# Altium schematic symbol library KeetV2_2.SCHLIB: 72 symbols (part 2 of 3)
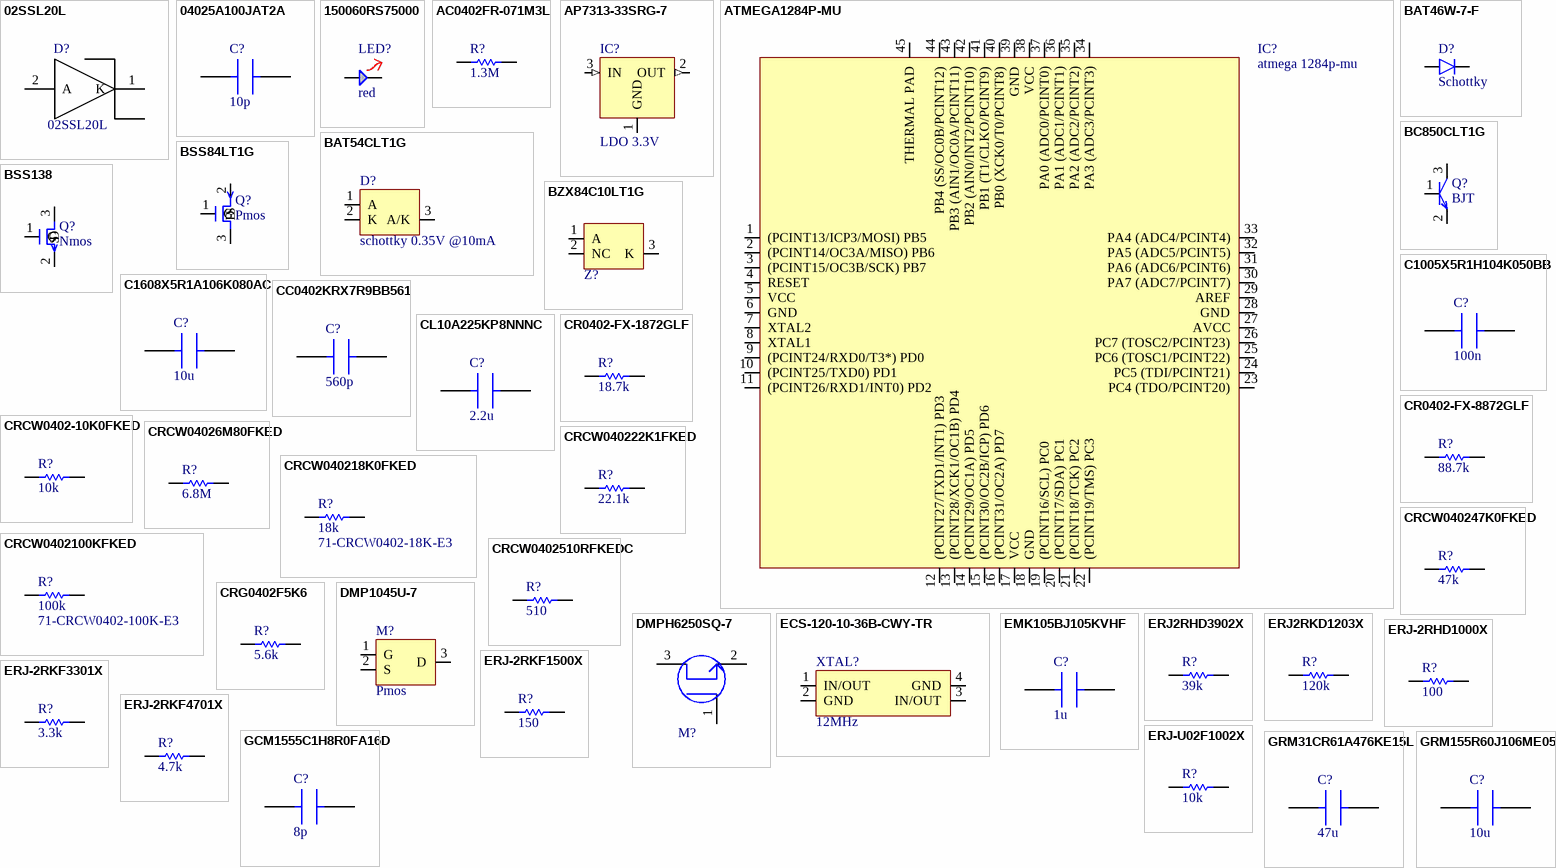
[diagram p2: symbols 02SSL20L to GRM155R60J106ME05J]

## CRCW04026M80FKED
designator R?, comment 6.8M
VISHAY         CRCW04026M80FKED            SMD Chip Resistor, Thick Film, AEC-Q200 CRCW Series, 6.8 Mohm, 50 V, 0402 [1005 Metric], 63 mW; Resistance: 6.8MR; Power Rating: 63mW; Tolerance: 1%; Voltage Rating: 50V; Temperature Coefficient: 100ppm/°C; Supplier 1: Mouser; Manufacturer: Vishay; Manufacturer Part Number: CRCW04026M80FKED; RoHS: Yes; Category: Chip SMD Resistors; Stock 1: 37640; Pricing 1: 1=0,10000, 10=0,03300, 50=0,03300, 100=0,01400, 1000=0,01300, 10000=0,01000 (USD); Case/Package: 0402; Weight: 2.3E-05oz; Case Code (Metric): 1005; Case Code (Imperial): 0402; Min Operating Temperature: -55°C; Max Operating Temperature: 155°C; Package Quantity: 10000; Packaging: Tape and Reel; Resistor Type: Thick Film; Number of Terminations: 2; Termination: SMD/SMT; Max Power Dissipation: 63mW; Voltage Rating (DC): 50V; Features: Automotive AEC-Q200; Series: CRCW; Resistance Tolerance: 1%; Construction: Rectangular; Length: 1mm; Width: 0.02inch; Height: 0.016inch; Depth: 0.5mm; REACH SVHC: Unknown; Military Standard: Not; Lead Free: Lead Free; RoHS Compliant: Yes; ComponentLink1URL: https://datasheet.ciiva.com/2556/dcrcwe3-2556851.pdf?src-supplier=Digi-Key; ComponentLink1Description: https://datasheet.ciiva.com/2556/dcrcwe3-2556851.pdf?src-supplier=Digi-Key; ComponentLink2URL: https://datasheet.ciiva.com/22682/1700796-22682661.pdf?src-supplier=Element14; ComponentLink2Description: https://datasheet.ciiva.com/22682/1700796-22682661.pdf?src-supplier=Element14; ComponentLink3URL: https://datasheet.ciiva.com/5544/dcrcwe3-109170-5544312.pdf?src-supplier=Mouser; ComponentLink3Description: https://datasheet.ciiva.com/5544/dcrcwe3-109170-5544312.pdf?src-supplier=Mouser; ComponentLink4URL: https://datasheet.ciiva.com/7748/1697337-7748637.pdf?src-supplier=Element14; ComponentLink4Description: https://datasheet.ciiva.com/7748/1697337-7748637.pdf?src-supplier=Element14; ComponentLink5URL: https://datasheet.ciiva.com/7748/1697337-7748638.pdf?src-supplier=Element14; ComponentLink5Description: https://datasheet.ciiva.com/7748/1697337-7748638.pdf?src-supplier=Element14; ComponentLink6URL: https://datasheet.ciiva.com/22702/1697337-22702703.pdf?src-supplier=Element14; ComponentLink6Description: https://datasheet.ciiva.com/22702/1697337-22702703.pdf?src-supplier=Element14; Supplier Part Number 1: 71-CRCW04026M80FKED
footprint RESC1005X04N (Chip Resistor, 0402, 2-Leads, Body 1,00x0,50mm, IPC Medium Density)
pins: 1, 2

## CRCW040218K0FKED
designator R?, comment 18k  Supplier Part Number 1: 71-CRCW0402-18K-E3
RESISTOR, 0402, 18K, 1%, FULL REEL; Product Range:VISHAY - AEC-Q200 CRCW Series; Resistance:18kohm; Power Rating:63mW; Resistance Tolerance:± 1%; Resistor Case Style:0402 [1005 Metric]; Resistor Element Material:Thick Film; ;RoHS Compliant: Yes; Manufacturer: Vishay; Manufacturer Part Number: CRCW040218K0FKED; Resistance: 18kR; Power Rating: 63mW; Voltage Rating: 50V; Temperature Coefficient: 100ppm/°C; Supplier 1: Mouser; RoHS: Yes; Category: Chip SMD Resistors; Stock 1: 36601; Pricing 1: 1=0,10000, 10=0,03300, 50=0,03300, 100=0,01400, 1000=0,00500, 10000=0,00500 (USD); Case/Package: 0402; Number of Pins: 2; Case Code (Imperial): 0402; Case Code (Metric): 1005; Contact Plating: Tin; Weight: 2.3E-05oz; Size Code: 0402; Min Operating Temperature: -55°C; Max Operating Temperature: 155°C; Tolerance: 1%; Packaging: Tape and Reel; Package Quantity: 10000; Resistor Type: Thick Film; Termination: SMD/SMT; Voltage Rating (DC): 50V; Features: Automotive AEC-Q200; Series: CRCW; Max Power Dissipation: 63mW; Number of Terminations: 2; Resistance Tolerance: 1%; Technology: THICK FILM; Construction: Rectangular; Length: 1mm; Width: 0.5mm; Height: 0.35mm; Depth: 0.5mm; Radiation Hardening: No; Lead Free: Lead Free; REACH SVHC: Unknown; Military Standard: Not; RoHS Compliant: Yes; ComponentLink1URL: https://datasheet.ciiva.com/11818/0900766b80d98824-11818010.pdf?src-supplier=RSComponents; ComponentLink1Description: https://datasheet.ciiva.com/11818/0900766b80d98824-11818010.pdf?src-supplier=RSComponents; ComponentLink2URL: https://datasheet.ciiva.com/16881/dcrcwe3-16881016.pdf?src-supplier=Avnet+Europe; ComponentLink2Description: https://datasheet.ciiva.com/16881/dcrcwe3-16881016.pdf?src-supplier=Avnet+Europe; ComponentLink3URL: https://datasheet.ciiva.com/22708/1697337-22708409.pdf?src-supplier=Element14; ComponentLink3Description: https://datasheet.ciiva.com/22708/1697337-22708409.pdf?src-supplier=Element14; ComponentLink4URL: https://datasheet.ciiva.com/7841/1697337-7841482.pdf?src-supplier=Element14; ComponentLink4Description: https://datasheet.ciiva.com/7841/1697337-7841482.pdf?src-supplier=Element14; ComponentLink5URL: https://datasheet.ciiva.com/7841/1697337-7841483.pdf?src-supplier=Element14; ComponentLink5Description: https://datasheet.ciiva.com/7841/1697337-7841483.pdf?src-supplier=Element14; ComponentLink6URL: https://datasheet.ciiva.com/16773/70201119-16773931.pdf?src-supplier=Allied+Electronics; ComponentLink6Description: https://datasheet.ciiva.com/16773/70201119-16773931.pdf?src-supplier=Allied+Electronics; ComponentLink7URL: https://datasheet.ciiva.com/7743/125364-7743469.pdf?src-supplier=Element14; ComponentLink7Description: https://datasheet.ciiva.com/7743/125364-7743469.pdf?src-supplier=Element14; ComponentLink8URL: https://datasheet.ciiva.com/26316/fld-crcw-e3-data-en-26316621.pdf?src-supplier=Distrelec; ComponentLink8Description: https://datasheet.ciiva.com/26316/fld-crcw-e3-data-en-26316621.pdf?src-supplier=Distrelec
footprint RESC1005X04N (Chip Resistor, 0402, 2-Leads, Body 1,00x0,50mm, IPC Medium Density)
pins: 1, 2

## CRCW040222K1FKED
designator R?, comment 22.1k
Resistor;  Thick Film;  22.1 Kilohms;  0.063 W;  1%;  SMT;  0402;  TCR 37 ppm/DegC;  TR; Manufacturer: Vishay; Manufacturer Part Number: CRCW040222K1FKED; Resistance: 22.1kR; Temperature Coefficient: 100ppm/°C; Max Power Dissipation: 63mW; Voltage Rating: 50V; Supplier 1: Mouser; RoHS: Yes; Category: Chip SMD Resistors; Stock 1: 53617; Pricing 1: 1=0,10000, 10=0,03300, 50=0,03300, 100=0,01400, 1000=0,00500, 10000=0,00500 (USD); Mount: Surface Mount; Case/Package: 0402; Number of Pins: 2; Case Code (Imperial): 0402; Case Code (Metric): 1005; Contact Plating: Tin; Weight: 2.3E-05oz; Min Operating Temperature: -55°C; Max Operating Temperature: 155°C; Tolerance: 1%; Packaging: Tape and Reel; Resistor Type: Thick Film; Number of Terminations: 2; Package Quantity: 10000; Features: Automotive AEC-Q200; Series: CRCW; Power Rating: 63mW; Termination: SMD/SMT; Voltage Rating (DC): 50V; Working Voltage: 50V; Resistance Tolerance: 1%; Construction: Rectangular; Technology: THICK FILM; Length: 1mm; Width: 0.5mm; Height: 0.35mm; Depth: 0.5mm; Radiation Hardening: No; RoHS Compliant: Yes; Lead Free: Lead Free; REACH SVHC: Unknown; Military Standard: Not; ComponentLink1URL: https://datasheet.ciiva.com/11810/0900766b80d98824-11810184.pdf?src-supplier=RSComponents; ComponentLink1Description: https://datasheet.ciiva.com/11810/0900766b80d98824-11810184.pdf?src-supplier=RSComponents; ComponentLink2URL: https://datasheet.ciiva.com/7673/1697337-7673445.pdf?src-supplier=Element14; ComponentLink2Description: https://datasheet.ciiva.com/7673/1697337-7673445.pdf?src-supplier=Element14; ComponentLink3URL: https://datasheet.ciiva.com/3256/dcrcwe3-3256246.pdf?src-supplier=Avnet; ComponentLink3Description: https://datasheet.ciiva.com/3256/dcrcwe3-3256246.pdf?src-supplier=Avnet; ComponentLink4URL: https://datasheet.ciiva.com/3256/dcrcwe3-3256247.pdf?src-supplier=Avnet; ComponentLink4Description: https://datasheet.ciiva.com/3256/dcrcwe3-3256247.pdf?src-supplier=Avnet; ComponentLink5URL: https://datasheet.ciiva.com/16208/dcrcwe3-16208744.pdf?src-supplier=Future+Electronics; ComponentLink5Description: https://datasheet.ciiva.com/16208/dcrcwe3-16208744.pdf?src-supplier=Future+Electronics; ComponentLink6URL: https://datasheet.ciiva.com/22871/70201119-22871080.pdf?src-supplier=Allied+Electronics; ComponentLink6Description: https://datasheet.ciiva.com/22871/70201119-22871080.pdf?src-supplier=Allied+Electronics; ComponentLink7URL: https://datasheet.ciiva.com/16886/dcrcwe3-16886652.pdf?src-supplier=Avnet+Europe; ComponentLink7Description: https://datasheet.ciiva.com/16886/dcrcwe3-16886652.pdf?src-supplier=Avnet+Europe; ComponentLink8URL: https://datasheet.ciiva.com/7673/1697337-7673245.pdf?src-supplier=Element14; ComponentLink8Description: https://datasheet.ciiva.com/7673/1697337-7673245.pdf?src-supplier=Element14; ComponentLink9URL: https://datasheet.ciiva.com/16771/70201119-16771838.pdf?src-supplier=Allied+Electronics; ComponentLink9Description: https://datasheet.ciiva.com/16771/70201119-16771838.pdf?src-supplier=Allied+Electronics; Supplier Part Number 1: 71-CRCW0402-22.1K-E3
footprint RESC1005X04N (Chip Resistor, 0402, 2-Leads, Body 1,00x0,50mm, IPC Medium Density)
pins: 1, 2

## CRCW040247K0FKED
designator R?, comment 47k
Resistor;  Thick Film;  47 Kilohms;  0.063 W;  1%;  SMT;  0402;  TCR 37 ppm/DegC; Manufacturer: Vishay; Manufacturer Part Number: CRCW040247K0FKED; Resistance: 47kR; Temperature Coefficient: 100ppm/°C; Power Rating: 63mW; Voltage Rating: 50V; Supplier 1: Mouser; RoHS: Yes; Category: Chip SMD Resistors; Stock 1: 40176; Pricing 1: 1=0,10000, 10=0,03300, 50=0,03300, 100=0,01400, 1000=0,00500, 10000=0,00500 (USD); Mount: Surface Mount; Case/Package: 0402; Contact Plating: Tin; Weight: 2.3E-05oz; Case Code (Imperial): 0402; Case Code (Metric): 1005; Min Operating Temperature: -55°C; Max Operating Temperature: 155°C; Resistor Type: Thick Film; Tolerance: 1%; Termination: SMD/SMT; Packaging: Tape and Reel; Package Quantity: 10000; Number of Terminations: 2; Features: Automotive AEC-Q200; Series: CRCW; Max Power Dissipation: 63mW; Technology: THICK FILM; Construction: Rectangular; Voltage Rating (DC): 50V; Working Voltage: 50V; Resistance Tolerance: 1%; Length: 1mm; Width: 0.5mm; Height: 0.35mm; Depth: 0.5mm; Radiation Hardening: No; Lead Free: Lead Free; RoHS Compliant: Yes; Military Standard: Not; REACH SVHC: Unknown; ComponentLink1URL: https://datasheet.ciiva.com/11808/0900766b80d98824-11808993.pdf?src-supplier=RSComponents; ComponentLink1Description: https://datasheet.ciiva.com/11808/0900766b80d98824-11808993.pdf?src-supplier=RSComponents; ComponentLink2URL: https://datasheet.ciiva.com/5543/dcrcwe3-109170-5543015.pdf?src-supplier=Mouser; ComponentLink2Description: https://datasheet.ciiva.com/5543/dcrcwe3-109170-5543015.pdf?src-supplier=Mouser; ComponentLink3URL: https://datasheet.ciiva.com/16768/70201119-16768855.pdf?src-supplier=Allied+Electronics; ComponentLink3Description: https://datasheet.ciiva.com/16768/70201119-16768855.pdf?src-supplier=Allied+Electronics; ComponentLink4URL: https://datasheet.ciiva.com/7777/1720486-7777545.pdf?src-supplier=Element14; ComponentLink4Description: https://datasheet.ciiva.com/7777/1720486-7777545.pdf?src-supplier=Element14; ComponentLink5URL: https://datasheet.ciiva.com/3256/dcrcwe3-3256558.pdf?src-supplier=Avnet; ComponentLink5Description: https://datasheet.ciiva.com/3256/dcrcwe3-3256558.pdf?src-supplier=Avnet; ComponentLink6URL: https://datasheet.ciiva.com/3256/dcrcwe3-3256559.pdf?src-supplier=Avnet; ComponentLink6Description: https://datasheet.ciiva.com/3256/dcrcwe3-3256559.pdf?src-supplier=Avnet; ComponentLink7URL: https://datasheet.ciiva.com/7777/1697337-7777247.pdf?src-supplier=Element14; ComponentLink7Description: https://datasheet.ciiva.com/7777/1697337-7777247.pdf?src-supplier=Element14; Supplier Part Number 1: 71-CRCW0402-47K-E3
footprint RESC1005X04N (Chip Resistor, 0402, 2-Leads, Body 1,00x0,50mm, IPC Medium Density)
pins: 1, 2

## CRCW0402100KFKED
designator R?, comment 100k  Supplier Part Number 1: 71-CRCW0402-100K-E3
Res Thick Film 0402 100K Ohm 1% 1/16W 100ppm/C Molded SMD Paper T/R; Manufacturer: Vishay; Manufacturer Part Number: CRCW0402100KFKED; Power Rating: 63mW; Resistance: 100kR; Temperature Coefficient: 100ppm/°C; Voltage Rating: 50V; Supplier 1: Mouser; RoHS: Yes; Category: Chip SMD Resistors; Stock 1: 350931; Pricing 1: 1=0,10000, 10=0,03300, 50=0,03300, 100=0,01400, 1000=0,00600, 10000=0,00500 (USD); Mount: Surface Mount; Case/Package: 0402; Number of Pins: 2; Contact Plating: Tin; Weight: 2.3E-05oz; Case Code (Metric): 1005; Case Code (Imperial): 0402; Size Code: 0402; Min Operating Temperature: -55°C; Max Operating Temperature: 155°C; Tolerance: 1%; Resistor Type: Thick Film; Termination: SMD/SMT; Packaging: Tape and Reel; Package Quantity: 10000; Number of Terminations: 2; Max Power Dissipation: 63mW; Voltage Rating (DC): 50V; Features: Automotive AEC-Q200; Series: CRCW; Technology: THICK FILM; Construction: Rectangular; Resistance Tolerance: 1%; Length: 1mm; Width: 0.02inch; Height: 0.35mm; Depth: 0.5mm; Radiation Hardening: No; Lead Free: Lead Free; RoHS Compliant: Yes; REACH SVHC: Unknown; Military Standard: Not; ComponentLink1URL: https://datasheet.ciiva.com/11810/0900766b80d98824-11810752.pdf?src-supplier=RSComponents; ComponentLink1Description: https://datasheet.ciiva.com/11810/0900766b80d98824-11810752.pdf?src-supplier=RSComponents; ComponentLink2URL: https://datasheet.ciiva.com/26316/fld-crcw-e3-data-en-26316630.pdf?src-supplier=Distrelec; ComponentLink2Description: https://datasheet.ciiva.com/26316/fld-crcw-e3-data-en-26316630.pdf?src-supplier=Distrelec; ComponentLink3URL: https://datasheet.ciiva.com/2463/dcrcwe3-2463064.pdf?src-supplier=Digi-Key; ComponentLink3Description: https://datasheet.ciiva.com/2463/dcrcwe3-2463064.pdf?src-supplier=Digi-Key; ComponentLink4URL: https://datasheet.ciiva.com/2463/dcrcwe3-2463065.pdf?src-supplier=Digi-Key; ComponentLink4Description: https://datasheet.ciiva.com/2463/dcrcwe3-2463065.pdf?src-supplier=Digi-Key; ComponentLink5URL: https://datasheet.ciiva.com/16776/70201119-16776281.pdf?src-supplier=Allied+Electronics; ComponentLink5Description: https://datasheet.ciiva.com/16776/70201119-16776281.pdf?src-supplier=Allied+Electronics; ComponentLink6URL: https://datasheet.ciiva.com/16941/dcrcwe3-16941129.pdf?src-supplier=Avnet+Europe; ComponentLink6Description: https://datasheet.ciiva.com/16941/dcrcwe3-16941129.pdf?src-supplier=Avnet+Europe; ComponentLink7URL: https://datasheet.ciiva.com/2463/dcrcwe3-2463066.pdf?src-supplier=Digi-Key; ComponentLink7Description: https://datasheet.ciiva.com/2463/dcrcwe3-2463066.pdf?src-supplier=Digi-Key; ComponentLink8URL: https://datasheet.ciiva.com/3255/dcrcwe3-3255947.pdf?src-supplier=Avnet; ComponentLink8Description: https://datasheet.ciiva.com/3255/dcrcwe3-3255947.pdf?src-supplier=Avnet; ComponentLink9URL: https://datasheet.ciiva.com/3255/dcrcwe3-3255948.pdf?src-supplier=Avnet; ComponentLink9Description: https://datasheet.ciiva.com/3255/dcrcwe3-3255948.pdf?src-supplier=Avnet; ComponentLink10URL: https://datasheet.ciiva.com/16208/dcrcwe3-16208508.pdf?src-supplier=Future+Electronics; ComponentLink10Description: https://datasheet.ciiva.com/16208/dcrcwe3-16208508.pdf?src-supplier=Future+Electronics; ComponentLink11URL: https://datasheet.ciiva.com/5546/dcrcwe3-109170-5546638.pdf?src-supplier=Mouser; ComponentLink11Description: https://datasheet.ciiva.com/5546/dcrcwe3-109170-5546638.pdf?src-supplier=Mouser; ComponentLink12URL: https://datasheet.ciiva.com/46441/1720486-46441598.pdf?src-supplier=Element14; ComponentLink12Description: https://datasheet.ciiva.com/46441/1720486-46441598.pdf?src-supplier=Element14
footprint RESC1005X04N (Chip Resistor, 0402, 2-Leads, Body 1,00x0,50mm, IPC Medium Density)
pins: 1, 2

## CRCW0402510RFKEDC
designator R?, comment 510
Res Thick Film 0402 510 Ohm 1% 0.063W(1/16W) ±100ppm/C Pad SMD T/R; Manufacturer: Vishay; Manufacturer Part Number: CRCW0402510RFKEDC; Resistance: 510R; Max Power Dissipation: 250mW; Temperature Coefficient: 100ppm/°C; Zener Voltage: 75V; Impedance: 255R; Supplier 1: Mouser; RoHS: Yes; Category: Chip SMD Resistors; Stock 1: 57461; Pricing 1: 1=0,10000, 10=0,03200, 50=0,03200, 100=0,01300, 1000=0,00500, 10000=0,00300 (USD); Mount: Surface Mount; Case/Package: 0402; Case Code (Imperial): 0402; Case Code (Metric): 1005; Min Operating Temperature: -55°C; Max Operating Temperature: 150°C; Resistor Type: Thick Film; Packaging: Cut Tape; Tolerance: 1%; Number of Terminations: 2; RoHS Compliant: Yes; ComponentLink1URL: http://www.vishay.com/docs/28773/crcwce3.pdf?src-supplier=Digi-Key; ComponentLink1Description: http://www.vishay.com/docs/28773/crcwce3.pdf?src-supplier=Digi-Key; Supplier Part Number 1: 71-CRCW0402510RFKEDC
footprint RESC1005X04N (Chip Resistor, 0402, 2-Leads, Body 1,00x0,50mm, IPC Medium Density)
pins: 1, 2

## CRG0402F5K6
designator R?, comment 5.6k
TE Connectivity CRG0402 Series Thick Film Surface Mount Resistor 0402 Case 5.6k 1% 0.063W 100ppm/C; Manufacturer Part Number: CRG0402F5K6; Resistance: 5.6kR; Temperature Coefficient: 100ppm/°C; Power Rating: 63mW; Voltage Rating: 50V; Number of Resistors: 1; Supplier 1: Mouser; Manufacturer: TE Connectivity; RoHS: Yes; Category: Chip SMD Resistors; Pricing 1: 10000=0,00200 (USD); Mount: Surface Mount; Case/Package: 0402; Case Code (Imperial): 0402; Case Code (Metric): 1005; Weight: 2.3E-05oz; Min Operating Temperature: -55°C; Max Operating Temperature: 125°C; Packaging: Tape and Reel; Tolerance: 1%; Resistor Type: Thick Film; Package Quantity: 10000; Number of Terminations: 2; Termination: Solder; Voltage Rating (DC): 50V; Length: 1mm; Width: 0.5mm; Height: 0.35mm; Depth: 0.5mm; REACH SVHC: No SVHC; ELV: Compliant; ComponentLink1URL: https://datasheet.ciiva.com/11811/0900766b80d0914d-11811373.pdf?src-supplier=RSComponents; ComponentLink1Description: https://datasheet.ciiva.com/11811/0900766b80d0914d-11811373.pdf?src-supplier=RSComponents; ComponentLink2URL: https://datasheet.ciiva.com/46386/1610603-46386187.pdf?src-supplier=Element14; ComponentLink2Description: https://datasheet.ciiva.com/46386/1610603-46386187.pdf?src-supplier=Element14; ComponentLink3URL: https://datasheet.ciiva.com/22706/1610603-22706136.pdf?src-supplier=Element14; ComponentLink3Description: https://datasheet.ciiva.com/22706/1610603-22706136.pdf?src-supplier=Element14; Supplier Part Number 1: 279-CRG0402F5K6
footprint RESC1005X04N (Chip Resistor, 0402, 2-Leads, Body 1,00x0,50mm, IPC Medium Density)
pins: 1, 2

## DMP1045U-7
designator M?, comment Pmos
P-Channel 12 V 31 mOhm Surface Mount Enhancement Mode Mosfet - SOT-23-3; Manufacturer: Diodes; Manufacturer Part Number: DMP1045U-7; Rise Time: 23.3ns; Continuous Drain Current (ID): 4A; Gate to Source Voltage (Vgs): 8V; Fall Time: 106.9ns; Turn-Off Delay Time: 91.2ns; Turn-On Delay Time: 15.7ns; Rds On Max: 31mR; Input Capacitance: 1.357nF; Drain to Source Voltage (Vdss): 12V; Max Power Dissipation: 800mW; Number of Elements: 1; Power Dissipation: 1.3W; Element Configuration: Single; Drain to Source Breakdown Voltage: -12V; Supplier 1: Mouser; RoHS: Yes; Category: MOSFETs; Stock 1: 8272; Pricing 1: 1=0,41000, 10=0,27800, 50=0,27800, 100=0,14500, 1000=0,10100, 10000=0,07800 (USD); Mount: Surface Mount; Case/Package: SOT-23; Number of Pins: 3; Weight: 0.000282oz; Contact Plating: Tin,Matte; Min Operating Temperature: -55°C; Max Operating Temperature: 150°C; Package Quantity: 3000; Packaging: Tape and Reel; Drain to Source Resistance: 31mR; Number of Channels: 1; Polarity: P-CHANNEL; Series: DMP1045; Length: 3mm; Width: 1.4mm; Height: 1.1mm; Radiation Hardening: No; REACH SVHC: No SVHC; Lead Free: Lead Free; RoHS Compliant: Yes; ComponentLink1URL: https://datasheet.ciiva.com/11176/dmp1045u-11176581.pdf?src-supplier=Avnet; ComponentLink1Description: https://datasheet.ciiva.com/11176/dmp1045u-11176581.pdf?src-supplier=Avnet; ComponentLink2URL: https://datasheet.ciiva.com/17323/dmp1045u-17323644.pdf?src-supplier=Avnet+Europe; ComponentLink2Description: https://datasheet.ciiva.com/17323/dmp1045u-17323644.pdf?src-supplier=Avnet+Europe; ComponentLink3URL: https://datasheet.ciiva.com/18648/dmp1045u-18648300.pdf?src-supplier=Digi-Key; ComponentLink3Description: https://datasheet.ciiva.com/18648/dmp1045u-18648300.pdf?src-supplier=Digi-Key; Supplier Part Number 1: 621-DMP1045U-7
footprint SOT95P245X110-3N (SOT23, 3-Leads, Body 2,90x2,45mm, Pitch 0,95mm, IPC Medium Density)
pins: 1 G, 2 S, 3 D

## DMPH6250SQ-7
designator M?, comment Pmos enhancement  (value not drawn)
DMPH6250SQ Series 60 V 2.4 A P-Channel Enhancement Mode Mosfet - SOT-23-3; Manufacturer: Diodes; Manufacturer Part Number: DMPH6250SQ-7; Supplier 1: Mouser; RoHS: Yes; Pricing 1: 1=0,40000, 10=0,31900, 50=0,31900, 100=0,22500, 1000=0,15100, 10000=0,13000 (USD); Supplier Part Number 1: 621-DMPH6250SQ-7
footprint SOT95P245X110-3N (SOT23, 3-Leads, Body 2,90x2,45mm, Pitch 0,95mm, IPC Medium Density)
pins: 1, 2, 3

## ECS-120-10-36B-CWY-TR
designator XTAL?, comment 12MHz
Crystal 12MHz ±10ppm (Tol) ±15ppm (Stability) 10pF FUND 130Ohm 4-Pin Mini-CSMD T/R; Manufacturer: ECS International; Manufacturer Part Number: ECS-120-10-36B-CWY-TR; Supplier 1: Mouser; RoHS: Yes; Stock 1: 1709; Pricing 1: 1=0,43000, 10=0,36300, 50=0,32700, 100=0,29000, 1000=0,23200, 10000=0,20300 (USD); Supplier Part Number 1: 520-120-10-36B-CWYT
footprint DFN170P250X60-4N (DFN, 4-Leads, Body 2,00x2,50mm, Pitch 1,70mm, IPC Medium Density)
pins: 1 IN/OUT, 2 GND, 3 IN/OUT, 4 GND

## EMK105BJ105KVHF
designator C?, comment 1u
TAIYO YUDEN - EMK105BJ105KVHF - CAPACITOR,CERAMIC,0402,16V,X5R,1 F, 10% ROHS COMPLIANT: YES; Capacitance: 1uF; Supplier 1: Mouser; Manufacturer: Taiyo Yuden; Manufacturer Part Number: EMK105BJ105KVHF; RoHS: Yes; Category: Ceramic Capacitors; Stock 1: 62407; Pricing 1: 1=0,10000, 10=0,06700, 50=0,06700, 100=0,02900, 1000=0,01500, 10000=0,01100 (USD); Mount: Surface Mount; Case/Package: 0402; Case Code (Metric): 1005; Case Code (Imperial): 0402; Weight: 2.3E-05oz; Min Operating Temperature: -55°C; Max Operating Temperature: 85°C; Voltage Rating: 16V; Package Quantity: 10000; Packaging: Tape and Reel; Tolerance: 10%; Dielectric: X5R; Termination: SMD/SMT; Voltage Rating (DC): 16V; Length: 0.039inch; Width: 0.5mm; Height: 0.5mm; Thickness: 0.022inch; Ratings: AEC-Q200; Lead Free: Lead Free; Halogen Free: Halogen Free; RoHS Compliant: Yes; ComponentLink1URL: http://www.mouser.com/ds/2/396/mlcc11_hq_e-541564.pdf?src-supplier=Mouser; ComponentLink1Description: http://www.mouser.com/ds/2/396/mlcc11_hq_e-541564.pdf?src-supplier=Mouser; ComponentLink2URL: http://www.yuden.co.jp/eu/product/category/capacitor/putpdf/EMK105BJ105KVHF.pdf?src-supplier=Avnet; ComponentLink2Description: http://www.yuden.co.jp/eu/product/category/capacitor/putpdf/EMK105BJ105KVHF.pdf?src-supplier=Avnet; ComponentLink3URL: https://www.yuden.co.jp/productdata/catalog/mlcc01_hq_e.pdf?src-supplier=Digi-Key; ComponentLink3Description: https://www.yuden.co.jp/productdata/catalog/mlcc01_hq_e.pdf?src-supplier=Digi-Key; ComponentLink4URL: http://ds.yuden.co.jp/TYCOMPAS/ut/detail.do?productNo=EMK105BJ105KVHF&fileName=EMK105BJ105KVHF_SS&mode=specSheetDownload&src-supplier=Digi-Key; ComponentLink4Description: http://ds.yuden.co.jp/TYCOMPAS/ut/detail.do?productNo=EMK105BJ105KVHF&fileName=EMK105BJ105KVHF_SS&mode=specSheetDownload&src-supplier=Digi-Key; ComponentLink5URL: http://www.farnell.com/datasheets/2819903.pdf?src-supplier=Newark; ComponentLink5Description: http://www.farnell.com/datasheets/2819903.pdf?src-supplier=Newark; Supplier Part Number 1: 963-EMK105BJ105KVHF
footprint CAPC1005X06N (Chip Capacitor, 0420, 2-Leads, Body 1,02x0,50mm, IPC Medium Density)
pins: 1, 2

## ERJ2RHD3902X
designator R?, comment 39k
Res Thick Film 0402 39K Ohm 0.5% 0.063W(1/16W) ±50ppm/C Molded SMD Automotive Punched T/R; Manufacturer: Panasonic; Manufacturer Part Number: ERJ2RHD3902X; Resistance: 39kR; Power Rating: 63mW; Voltage Rating: 50V; Temperature Coefficient: 50ppm/°C; Supplier 1: Mouser; RoHS: Yes; Category: Chip SMD Resistors; Stock 1: 27224; Pricing 1: 1=0,10000, 10=0,04900, 50=0,04900, 100=0,02700, 1000=0,01600, 10000=0,01100 (USD); Mount: Surface Mount; Case/Package: 0402; Case Code (Metric): 1005; Case Code (Imperial): 0402; Min Operating Temperature: -55°C; Max Operating Temperature: 155°C; Tolerance: 0.5%; Packaging: Cut Tape; Resistor Type: Thick Film; Termination: Solder; Voltage Rating (DC): 50V; Length: 1mm; Height: 0.35mm; Depth: 0.5mm; REACH SVHC: No SVHC; Military Standard: Not; RoHS Compliant: Yes; ComponentLink1URL: http://www.alliedelec.com/m/d/623f45ff1957d936ff56d46fd1c28cac.pdf?src-supplier=Allied+Electronics; ComponentLink1Description: http://www.alliedelec.com/m/d/623f45ff1957d936ff56d46fd1c28cac.pdf?src-supplier=Allied+Electronics; ComponentLink2URL: http://components.arrow.com/part/dataview/0323_02919458?src-supplier=Arrow+Europe; ComponentLink2Description: http://components.arrow.com/part/dataview/0323_02919458?src-supplier=Arrow+Europe; ComponentLink3URL: http://www.farnell.com/datasheets/1911175.pdf?src-supplier=Farnell; ComponentLink3Description: http://www.farnell.com/datasheets/1911175.pdf?src-supplier=Farnell; ComponentLink4URL: http://www.farnell.com/datasheets/1678782.pdf?src-supplier=Element14; ComponentLink4Description: http://www.farnell.com/datasheets/1678782.pdf?src-supplier=Element14; ComponentLink5URL: http://www.farnell.com/datasheets/1911175.pdf?src-supplier=Element14; ComponentLink5Description: http://www.farnell.com/datasheets/1911175.pdf?src-supplier=Element14; Supplier Part Number 1: 667-ERJ-2RHD3902X
footprint RESC1005X04N (Chip Resistor, 0402, 2-Leads, Body 1,00x0,50mm, IPC Medium Density)
pins: 1, 2

## ERJ2RKD1203X
designator R?, comment 120k
Res Thick Film 0402 120K Ohm 0.5% 0.063W(1/16W) ±100ppm/C Molded SMD Automotive Punched T/R; Manufacturer: Panasonic; Manufacturer Part Number: ERJ2RKD1203X; Resistance: 120kR; Power Rating: 63mW; Voltage Rating: 50V; Temperature Coefficient: 100ppm/°C; Supplier 1: Mouser; RoHS: Yes; Category: Chip SMD Resistors; Stock 1: 15368; Pricing 1: 1=0,14000, 10=0,07200, 50=0,07200, 100=0,04100, 1000=0,02300, 10000=0,01600 (USD); Mount: Surface Mount; Case/Package: 0402; Case Code (Metric): 1005; Case Code (Imperial): 0402; Contact Plating: Tin; Min Operating Temperature: -55°C; Max Operating Temperature: 125°C; Packaging: Cut Tape; Tolerance: 0.5%; Resistor Type: Thick Film; Termination: Solder; Voltage Rating (DC): 50V; Resistance Tolerance: 0.5%; Technology: THICK FILM; Construction: Rectangular; Length: 1mm; Height: 0.35mm; Depth: 0.5mm; REACH SVHC: No SVHC; Military Standard: Not; RoHS Compliant: Yes; ComponentLink1URL: https://datasheet.ciiva.com/9186/aoa0000ce2-9186232.pdf?src-supplier=Avnet; ComponentLink1Description: https://datasheet.ciiva.com/9186/aoa0000ce2-9186232.pdf?src-supplier=Avnet; ComponentLink2URL: https://datasheet.ciiva.com/28675/1678782-28675655.pdf?src-supplier=Element14; ComponentLink2Description: https://datasheet.ciiva.com/28675/1678782-28675655.pdf?src-supplier=Element14; Supplier Part Number 1: 667-ERJ-2RKD1203X
footprint RESC1005X04N (Chip Resistor, 0402, 2-Leads, Body 1,00x0,50mm, IPC Medium Density)
pins: 1, 2

## ERJ-2RHD1000X
designator R?, comment 100
RES SMD 100 OHM 0.5% 1/16W 0402; Manufacturer: Panasonic; Manufacturer Part Number: ERJ-2RHD1000X; Resistance: 100R; Temperature Coefficient: 50ppm/°C; Power Rating: 63mW; Voltage Rating: 50V; Supplier 1: Mouser; RoHS: Yes; Category: Chip SMD Resistors; Stock 1: 5726; Pricing 1: 1=0,10000, 10=0,09000, 50=0,09000, 100=0,03500, 1000=0,01600, 10000=0,01200 (USD); Mount: Surface Mount; Case/Package: 0402; Contact Plating: Tin; Case Code (Imperial): 0402; Case Code (Metric): 1005; Min Operating Temperature: -55°C; Max Operating Temperature: 125°C; Tolerance: 0.5%; Resistor Type: Thick Film; Packaging: Tape and Reel; Package Quantity: 10000; Termination: SMD/SMT; Voltage Rating (DC): 50V; Features: Automotive AEC-Q200; Series: ERJ; Max Power Dissipation: 63mW; Number of Terminations: 2; Technology: THICK FILM; Resistance Tolerance: 0.5%; Length: 1mm; Width: 0.5mm; Height: 0.35mm; Depth: 0.5mm; Radiation Hardening: No; REACH SVHC: No SVHC; RoHS Compliant: Yes; ComponentLink1URL: https://datasheet.ciiva.com/24071/aoa0000ce2-24071912.pdf?src-supplier=Mouser; ComponentLink1Description: https://datasheet.ciiva.com/24071/aoa0000ce2-24071912.pdf?src-supplier=Mouser; ComponentLink2URL: https://datasheet.ciiva.com/9119/aoa0000ce2-9119196.pdf?src-supplier=Avnet; ComponentLink2Description: https://datasheet.ciiva.com/9119/aoa0000ce2-9119196.pdf?src-supplier=Avnet; ComponentLink3URL: https://datasheet.ciiva.com/43511/aoa0000ce2-43511452.pdf?src-supplier=Onlinecomponents.com; ComponentLink3Description: https://datasheet.ciiva.com/43511/aoa0000ce2-43511452.pdf?src-supplier=Onlinecomponents.com; ComponentLink4URL: https://datasheet.ciiva.com/46438/1678782-46438252.pdf?src-supplier=Element14; ComponentLink4Description: https://datasheet.ciiva.com/46438/1678782-46438252.pdf?src-supplier=Element14; Supplier Part Number 1: 667-ERJ-2RHD1000X
footprint RESC1005X04N (Chip Resistor, 0402, 2-Leads, Body 1,00x0,50mm, IPC Medium Density)
pins: 1, 2

## ERJ-2RKF1500X
designator R?, comment 150
RES SMD 150 OHM 1% 1/10W 0402; Manufacturer: Panasonic; Manufacturer Part Number: ERJ-2RKF1500X; Resistance: 150R; Temperature Coefficient: 100ppm/°C; Power Rating: 100mW; Voltage Rating: 50V; Supplier 1: Mouser; RoHS: Yes; Category: Chip SMD Resistors; Stock 1: 497660; Pricing 1: 1=0,10000, 10=0,02200, 50=0,02200, 100=0,00900, 1000=0,00400, 10000=0,00300 (USD); Mount: Surface Mount; Case/Package: 0402; Number of Pins: 2; Contact Plating: Tin; Case Code (Metric): 1005; Case Code (Imperial): 0402; Size Code: 0402; Min Operating Temperature: -55°C; Max Operating Temperature: 155°C; Tolerance: 1%; Resistor Type: Thick Film; Packaging: Tape and Reel; Package Quantity: 1; Number of Terminations: 2; Termination: SMD/SMT; Max Power Dissipation: 100mW; Voltage Rating (DC): 50V; Features: Automotive AEC-Q200; Series: ERJ; Resistance Tolerance: 1%; Technology: THICK FILM; Construction: Rectangular; Length: 1mm; Width: 0.02inch; Height: 0.35mm; Depth: 0.5mm; Radiation Hardening: No; REACH SVHC: No SVHC; Military Standard: Not; Lead Free: Lead Free; RoHS Compliant: Yes; ComponentLink1URL: https://datasheet.ciiva.com/34303/1987126-34303555.pdf?src-supplier=Jameco; ComponentLink1Description: https://datasheet.ciiva.com/34303/1987126-34303555.pdf?src-supplier=Jameco; ComponentLink2URL: https://datasheet.ciiva.com/11821/0900766b80f80784-11821183.pdf?src-supplier=RSComponents; ComponentLink2Description: https://datasheet.ciiva.com/11821/0900766b80f80784-11821183.pdf?src-supplier=RSComponents; ComponentLink3URL: https://datasheet.ciiva.com/16774/70260748-16774549.pdf?src-supplier=Allied+Electronics; ComponentLink3Description: https://datasheet.ciiva.com/16774/70260748-16774549.pdf?src-supplier=Allied+Electronics; ComponentLink4URL: https://datasheet.ciiva.com/43467/1678782-43467237.pdf?src-supplier=Farnell; ComponentLink4Description: https://datasheet.ciiva.com/43467/1678782-43467237.pdf?src-supplier=Farnell; ComponentLink5URL: https://datasheet.ciiva.com/7887/426256-7887016.pdf?src-supplier=Element14; ComponentLink5Description: https://datasheet.ciiva.com/7887/426256-7887016.pdf?src-supplier=Element14; ComponentLink6URL: https://datasheet.ciiva.com/16371/aoa0000ce2-16371497.pdf?src-supplier=Future+Electronics; ComponentLink6Description: https://datasheet.ciiva.com/16371/aoa0000ce2-16371497.pdf?src-supplier=Future+Electronics; ComponentLink7URL: https://datasheet.ciiva.com/7886/aoa0000ce2-7886714.pdf?src-supplier=Element14; ComponentLink7Description: https://datasheet.ciiva.com/7886/aoa0000ce2-7886714.pdf?src-supplier=Element14; ComponentLink8URL: https://datasheet.ciiva.com/46373/1678782-46373162.pdf?src-supplier=Element14; ComponentLink8Description: https://datasheet.ciiva.com/46373/1678782-46373162.pdf?src-supplier=Element14; ComponentLink9URL: https://datasheet.ciiva.com/46373/1678782-46373163.pdf?src-supplier=Element14; ComponentLink9Description: https://datasheet.ciiva.com/46373/1678782-46373163.pdf?src-supplier=Element14; ComponentLink10URL: https://datasheet.ciiva.com/16770/70260748-16770572.pdf?src-supplier=Allied+Electronics; ComponentLink10Description: https://datasheet.ciiva.com/16770/70260748-16770572.pdf?src-supplier=Allied+Electronics; ComponentLink11URL: https://datasheet.ciiva.com/17207/aoa0000ce2-17207389.pdf?src-supplier=Avnet+Europe; ComponentLink11Description: https://datasheet.ciiva.com/17207/aoa0000ce2-17207389.pdf?src-supplier=Avnet+Europe; ComponentLink12URL: https://datasheet.ciiva.com/28568/1678782-28568846.pdf?src-supplier=Element14; ComponentLink12Description: https://datasheet.ciiva.com/28568/1678782-28568846.pdf?src-supplier=Element14; ComponentLink13URL: https://datasheet.ciiva.com/30106/aoa0000ce2-30106926.pdf?src-supplier=Onlinecomponents.com; ComponentLink13Description: https://datasheet.ciiva.com/30106/aoa0000ce2-30106926.pdf?src-supplier=Onlinecomponents.com; ComponentLink14URL: https://datasheet.ciiva.com/22673/1678782-22673679.pdf?src-supplier=Element14; ComponentLink14Description: https://datasheet.ciiva.com/22673/1678782-22673679.pdf?src-supplier=Element14; Supplier Part Number 1: 667-ERJ-2RKF1500X
footprint RESC1005X04N (Chip Resistor, 0402, 2-Leads, Body 1,00x0,50mm, IPC Medium Density)
pins: 1, 2

## ERJ-2RKF3301X
designator R?, comment 3.3k
PANASONIC - ERJ2RKF3301X - RES, 3K3, 1%, 0.1W, 0402, THICK FILM; Manufacturer Part Number: ERJ-2RKF3301X; Resistance: 3.3kR; Temperature Coefficient: 100ppm/°C; Power Rating: 100mW; Voltage Rating: 50V; Supplier 1: Mouser; Manufacturer: Panasonic; RoHS: Yes; Category: Chip SMD Resistors; Stock 1: 89476; Pricing 1: 1=0,10000, 10=0,02200, 50=0,02200, 100=0,00900, 1000=0,00400, 10000=0,00300 (USD); Mount: Surface Mount; Case/Package: 0402; Number of Pins: 2; Contact Plating: Tin; Case Code (Metric): 1005; Case Code (Imperial): 0402; Min Operating Temperature: -55°C; Max Operating Temperature: 155°C; Tolerance: 1%; Resistor Type: Thick Film; Packaging: Tape and Reel; Package Quantity: 1; Number of Terminations: 2; Termination: SMD/SMT; Max Power Dissipation: 100mW; Voltage Rating (DC): 50V; Features: Automotive AEC-Q200; Length: 1mm; Width: 0.02inch; Height: 0.35mm; Depth: 0.5mm; Radiation Hardening: No; REACH SVHC: No SVHC; Military Standard: Not; Lead Free: Lead Free; ComponentLink1URL: https://datasheet.ciiva.com/11821/0900766b80f80784-11821314.pdf?src-supplier=RSComponents; ComponentLink1Description: https://datasheet.ciiva.com/11821/0900766b80f80784-11821314.pdf?src-supplier=RSComponents; ComponentLink2URL: https://datasheet.ciiva.com/22687/1678782-22687445.pdf?src-supplier=Element14; ComponentLink2Description: https://datasheet.ciiva.com/22687/1678782-22687445.pdf?src-supplier=Element14; ComponentLink3URL: https://datasheet.ciiva.com/7802/aoa0000ce2-7802408.pdf?src-supplier=Element14; ComponentLink3Description: https://datasheet.ciiva.com/7802/aoa0000ce2-7802408.pdf?src-supplier=Element14; ComponentLink4URL: https://datasheet.ciiva.com/16777/70260748-16777945.pdf?src-supplier=Allied+Electronics; ComponentLink4Description: https://datasheet.ciiva.com/16777/70260748-16777945.pdf?src-supplier=Allied+Electronics; ComponentLink5URL: https://datasheet.ciiva.com/46372/1678782-46372730.pdf?src-supplier=Element14; ComponentLink5Description: https://datasheet.ciiva.com/46372/1678782-46372730.pdf?src-supplier=Element14; ComponentLink6URL: https://datasheet.ciiva.com/22667/1678782-22667883.pdf?src-supplier=Element14; ComponentLink6Description: https://datasheet.ciiva.com/22667/1678782-22667883.pdf?src-supplier=Element14; ComponentLink7URL: https://datasheet.ciiva.com/46372/1678782-46372731.pdf?src-supplier=Element14; ComponentLink7Description: https://datasheet.ciiva.com/46372/1678782-46372731.pdf?src-supplier=Element14; ComponentLink8URL: https://datasheet.ciiva.com/6138/aoa0000ce2-6138172.pdf?src-supplier=Farnell; ComponentLink8Description: https://datasheet.ciiva.com/6138/aoa0000ce2-6138172.pdf?src-supplier=Farnell; ComponentLink9URL: https://datasheet.ciiva.com/16773/70260748-16773756.pdf?src-supplier=Allied+Electronics; ComponentLink9Description: https://datasheet.ciiva.com/16773/70260748-16773756.pdf?src-supplier=Allied+Electronics; ComponentLink10URL: https://datasheet.ciiva.com/43467/1678782-43467358.pdf?src-supplier=Farnell; ComponentLink10Description: https://datasheet.ciiva.com/43467/1678782-43467358.pdf?src-supplier=Farnell; ComponentLink11URL: https://datasheet.ciiva.com/17213/aoa0000ce2-17213727.pdf?src-supplier=Avnet+Europe; ComponentLink11Description: https://datasheet.ciiva.com/17213/aoa0000ce2-17213727.pdf?src-supplier=Avnet+Europe; ComponentLink12URL: https://datasheet.ciiva.com/30264/aoa0000ce2-30264303.pdf?src-supplier=Onlinecomponents.com; ComponentLink12Description: https://datasheet.ciiva.com/30264/aoa0000ce2-30264303.pdf?src-supplier=Onlinecomponents.com; Supplier Part Number 1: 667-ERJ-2RKF3301X
footprint RESC1005X04N (Chip Resistor, 0402, 2-Leads, Body 1,00x0,50mm, IPC Medium Density)
pins: 1, 2

## ERJ-2RKF4701X
designator R?, comment 4.7k
Res Thick Film 0402 4.7K Ohm 1% 1/10W Â±100ppm/Â°C Molded SMD SMD Punched Carrier T/R; Manufacturer: Panasonic; Manufacturer Part Number: ERJ-2RKF4701X; Resistance: 4.7kR; Temperature Coefficient: 100ppm/°C; Power Rating: 100mW; Voltage Rating: 50V; Supplier 1: Mouser; RoHS: Yes; Category: Chip SMD Resistors; Stock 1: 689601; Pricing 1: 1=0,10000, 10=0,02200, 50=0,02200, 100=0,00900, 1000=0,00400, 10000=0,00300 (USD); Mount: Surface Mount; Case/Package: 0402; Number of Pins: 2; Contact Plating: Tin; Case Code (Metric): 1005; Case Code (Imperial): 0402; Weight: 0.000388oz; Min Operating Temperature: -55°C; Max Operating Temperature: 155°C; Tolerance: 1%; Resistor Type: Thick Film; Packaging: Cut Tape; Package Quantity: 10000; Number of Terminations: 2; Termination: SMD/SMT; Max Power Dissipation: 100mW; Voltage Rating (DC): 50V; Features: Automotive AEC-Q200; Series: ERJ-2Rx; Technology: THICK FILM; Length: 1mm; Width: 0.5mm; Height: 0.35mm; Depth: 0.5mm; Radiation Hardening: No; Lead Free: Lead Free; REACH SVHC: No SVHC; Military Standard: Not; RoHS Compliant: Yes; ComponentLink1URL: https://datasheet.ciiva.com/11821/0900766b80f80784-11821329.pdf?src-supplier=RSComponents; ComponentLink1Description: https://datasheet.ciiva.com/11821/0900766b80f80784-11821329.pdf?src-supplier=RSComponents; ComponentLink2URL: https://datasheet.ciiva.com/30053/aoa0000ce2-30053990.pdf?src-supplier=Onlinecomponents.com; ComponentLink2Description: https://datasheet.ciiva.com/30053/aoa0000ce2-30053990.pdf?src-supplier=Onlinecomponents.com; ComponentLink3URL: https://datasheet.ciiva.com/7830/aoa0000ce2-7830727.pdf?src-supplier=Element14; ComponentLink3Description: https://datasheet.ciiva.com/7830/aoa0000ce2-7830727.pdf?src-supplier=Element14; ComponentLink4URL: https://datasheet.ciiva.com/22781/1678782-22781576.pdf?src-supplier=Farnell; ComponentLink4Description: https://datasheet.ciiva.com/22781/1678782-22781576.pdf?src-supplier=Farnell; ComponentLink5URL: https://datasheet.ciiva.com/9195/aoa0000ce2-9195737.pdf?src-supplier=Avnet; ComponentLink5Description: https://datasheet.ciiva.com/9195/aoa0000ce2-9195737.pdf?src-supplier=Avnet; ComponentLink6URL: https://datasheet.ciiva.com/17213/aoa0000ce2-17213180.pdf?src-supplier=Avnet+Europe; ComponentLink6Description: https://datasheet.ciiva.com/17213/aoa0000ce2-17213180.pdf?src-supplier=Avnet+Europe; ComponentLink7URL: https://datasheet.ciiva.com/22667/1678782-22667886.pdf?src-supplier=Element14; ComponentLink7Description: https://datasheet.ciiva.com/22667/1678782-22667886.pdf?src-supplier=Element14; ComponentLink8URL: https://datasheet.ciiva.com/16763/70260748-16763151.pdf?src-supplier=Allied+Electronics; ComponentLink8Description: https://datasheet.ciiva.com/16763/70260748-16763151.pdf?src-supplier=Allied+Electronics; ComponentLink9URL: https://datasheet.ciiva.com/22723/1678782-22723903.pdf?src-supplier=Element14; ComponentLink9Description: https://datasheet.ciiva.com/22723/1678782-22723903.pdf?src-supplier=Element14; ComponentLink10URL: https://datasheet.ciiva.com/24025/aoa0000ce2-24025663.pdf?src-supplier=Mouser; ComponentLink10Description: https://datasheet.ciiva.com/24025/aoa0000ce2-24025663.pdf?src-supplier=Mouser; Supplier Part Number 1: 667-ERJ-2RKF4701X
footprint RESC1005X04N (Chip Resistor, 0402, 2-Leads, Body 1,00x0,50mm, IPC Medium Density)
pins: 1, 2

## ERJ-U02F1002X
designator R?, comment 10k
RES, THICK FILM, 10K, 1%, 0.1W, 0402, REEL; Product Range:AEC-Q200 ERJ Series; Resistance:10kohm; Power Rating:100mW; Resistance Tolerance: 1%; Voltage Rating:50V; Resistor Case Style:0402 [1005 Metric]; Packaging:Tape & Reel; MSL:-;RoHS Compliant: Yes; Manufacturer: Panasonic; Manufacturer Part Number: ERJ-U02F1002X; Resistance: 10kR; Power Rating: 100mW; Temperature Coefficient: 200ppm/°C; Voltage Rating: 50V; Current Rating: 1A; Supplier 1: Mouser; RoHS: Yes; Category: Chip SMD Resistors; Stock 1: 30000; Pricing 1: 1=0,10000, 10=0,05100, 50=0,05100, 100=0,02900, 1000=0,01600, 10000=0,01200 (USD); Mount: Surface Mount; Case/Package: 0402; Case Code (Imperial): 0402; Case Code (Metric): 1005; Weight: 2.8E-05oz; Min Operating Temperature: -55°C; Max Operating Temperature: 155°C; Packaging: Tape and Reel; Tolerance: 1%; Resistor Type: Thick Film; Termination: SMD/SMT; Package Quantity: 10000; Voltage Rating (DC): 50V; Length: 1mm; Width: 0.5mm; Height: 0.35mm; Radiation Hardening: No; RoHS Compliant: Yes; REACH SVHC: Unknown; ComponentLink1URL: https://datasheet.ciiva.com/29928/aoa0000ce5-29928150.pdf?src-supplier=Avnet; ComponentLink1Description: https://datasheet.ciiva.com/29928/aoa0000ce5-29928150.pdf?src-supplier=Avnet; ComponentLink2URL: https://datasheet.ciiva.com/28514/1783557-28514361.pdf?src-supplier=Element14; ComponentLink2Description: https://datasheet.ciiva.com/28514/1783557-28514361.pdf?src-supplier=Element14; ComponentLink3URL: https://datasheet.ciiva.com/28514/1783557-28514367.pdf?src-supplier=Element14; ComponentLink3Description: https://datasheet.ciiva.com/28514/1783557-28514367.pdf?src-supplier=Element14; Supplier Part Number 1: 667-ERJ-U02F1002X
footprint RESC1005X04N (Chip Resistor, 0402, 2-Leads, Body 1,00x0,50mm, IPC Medium Density)
pins: 1, 2

## GCM1555C1H8R0FA16D
designator C?, comment 8p
Cap Ceramic 8pF 50V C0G 1% SMD 0402 125C Paper T/R; Manufacturer: Murata; Manufacturer Part Number: GCM1555C1H8R0FA16D; Supplier 1: Mouser; RoHS: Yes; Category: Ceramic Capacitors; Stock 1: 10967; Pricing 1: 1=0,13000, 10=0,10100, 50=0,10100, 100=0,04700, 1000=0,02700, 10000=0,01900 (USD); Case/Package: 0402; Min Operating Temperature: -55°C; Max Operating Temperature: 125°C; Packaging: Tape and Reel; Tolerance: 1%; Dielectric: C0G; Capacitance: 8pF; Length: 1mm; Depth: 0.5mm; RoHS Compliant: Yes; ComponentLink1URL: http://components.arrow.com/part/dataview/0323_07106307?src-supplier=Arrow+Europe; ComponentLink1Description: http://components.arrow.com/part/dataview/0323_07106307?src-supplier=Arrow+Europe; Supplier Part Number 1: 81-GCM1555C1H8R0FA6D
footprint CAPC1005X06N (Chip Capacitor, 0402, 2-Leads, Body 1,02x0,50mm, IPC Medium Density)
pins: 1, 2

## GRM31CR61A476KE15L
designator C?, comment 47u
Multilayer Ceramic Capacitors MLCC - SMD/SMT 1206 47uF 10Vdc X5R +/-10%; Manufacturer: Murata; Manufacturer Part Number: GRM31CR61A476KE15L; Voltage: 10V; Tolerance: 10%; Supplier 1: Mouser; RoHS: Yes; Category: Ceramic Capacitors; Stock 1: 61980; Pricing 1: 1=0,67000, 10=0,40500, 50=0,40500, 100=0,35300, 1000=0,23900, 10000=0,19100 (USD); Mount: Surface Mount; Case/Package: 1206; Material: Ceramic; Case Code (Metric): 3216; Case Code (Imperial): 1206; Min Operating Temperature: -55°C; Max Operating Temperature: 85°C; Termination: SMD/SMT; Dielectric: X5R; Package Quantity: 2000; Packaging: Tape and Reel; Capacitance: 47uF; Voltage Rating: 10V; Voltage Rating (DC): 10V; Length: 3.2mm; Width: 1.6mm; Height: 1.6mm; Thickness: 0.071inch; Depth: 1.6mm; Lead Free: Lead Free; REACH SVHC: No SVHC; ComponentLink1URL: https://datasheet.ciiva.com/29536/grm31cr61a476ke15-01-29536840.pdf?src-supplier=Digi-Key; ComponentLink1Description: https://datasheet.ciiva.com/29536/grm31cr61a476ke15-01-29536840.pdf?src-supplier=Digi-Key; ComponentLink2URL: https://datasheet.ciiva.com/13337/product-13337807.pdf?src-supplier=Mouser; ComponentLink2Description: https://datasheet.ciiva.com/13337/product-13337807.pdf?src-supplier=Mouser; ComponentLink3URL: https://datasheet.ciiva.com/46445/1769893-46445004.pdf?src-supplier=Element14; ComponentLink3Description: https://datasheet.ciiva.com/46445/1769893-46445004.pdf?src-supplier=Element14; ComponentLink4URL: https://datasheet.ciiva.com/41860/partnumbering-e-01-41860758.pdf?src-supplier=Digi-Key; ComponentLink4Description: https://datasheet.ciiva.com/41860/partnumbering-e-01-41860758.pdf?src-supplier=Digi-Key; ComponentLink5URL: https://datasheet.ciiva.com/46445/1769893-46445005.pdf?src-supplier=Element14; ComponentLink5Description: https://datasheet.ciiva.com/46445/1769893-46445005.pdf?src-supplier=Element14; Supplier Part Number 1: 81-GRM31CR61A476KE5L
footprint CAPC3216X12N (Chip Capacitor, 1206, 2-Leads, Body 3,20x1,60mm, IPC Medium Density)
pins: 1, 2

## GRM155R60J106ME05J
designator C?, comment 10u
Multi-Layer Ceramic Capacitor 10uF X5R 20% 0402 Paper T/R; Manufacturer: Murata; Manufacturer Part Number: GRM155R60J106ME05J; Supplier 1: Mouser; RoHS: Yes; Category: Ceramic Capacitors; Pricing 1: 1=0,15000, 10=0,11100, 50=0,11100, 100=0,05200, 1000=0,03000, 10000=0,02100 (USD); Supplier Part Number 1: 81-GRM155R60J106ME05
footprint CAPC1005X06N (Chip Capacitor, 0402, 2-Leads, Body 1,02x0,50mm, IPC Medium Density)
pins: 1, 2

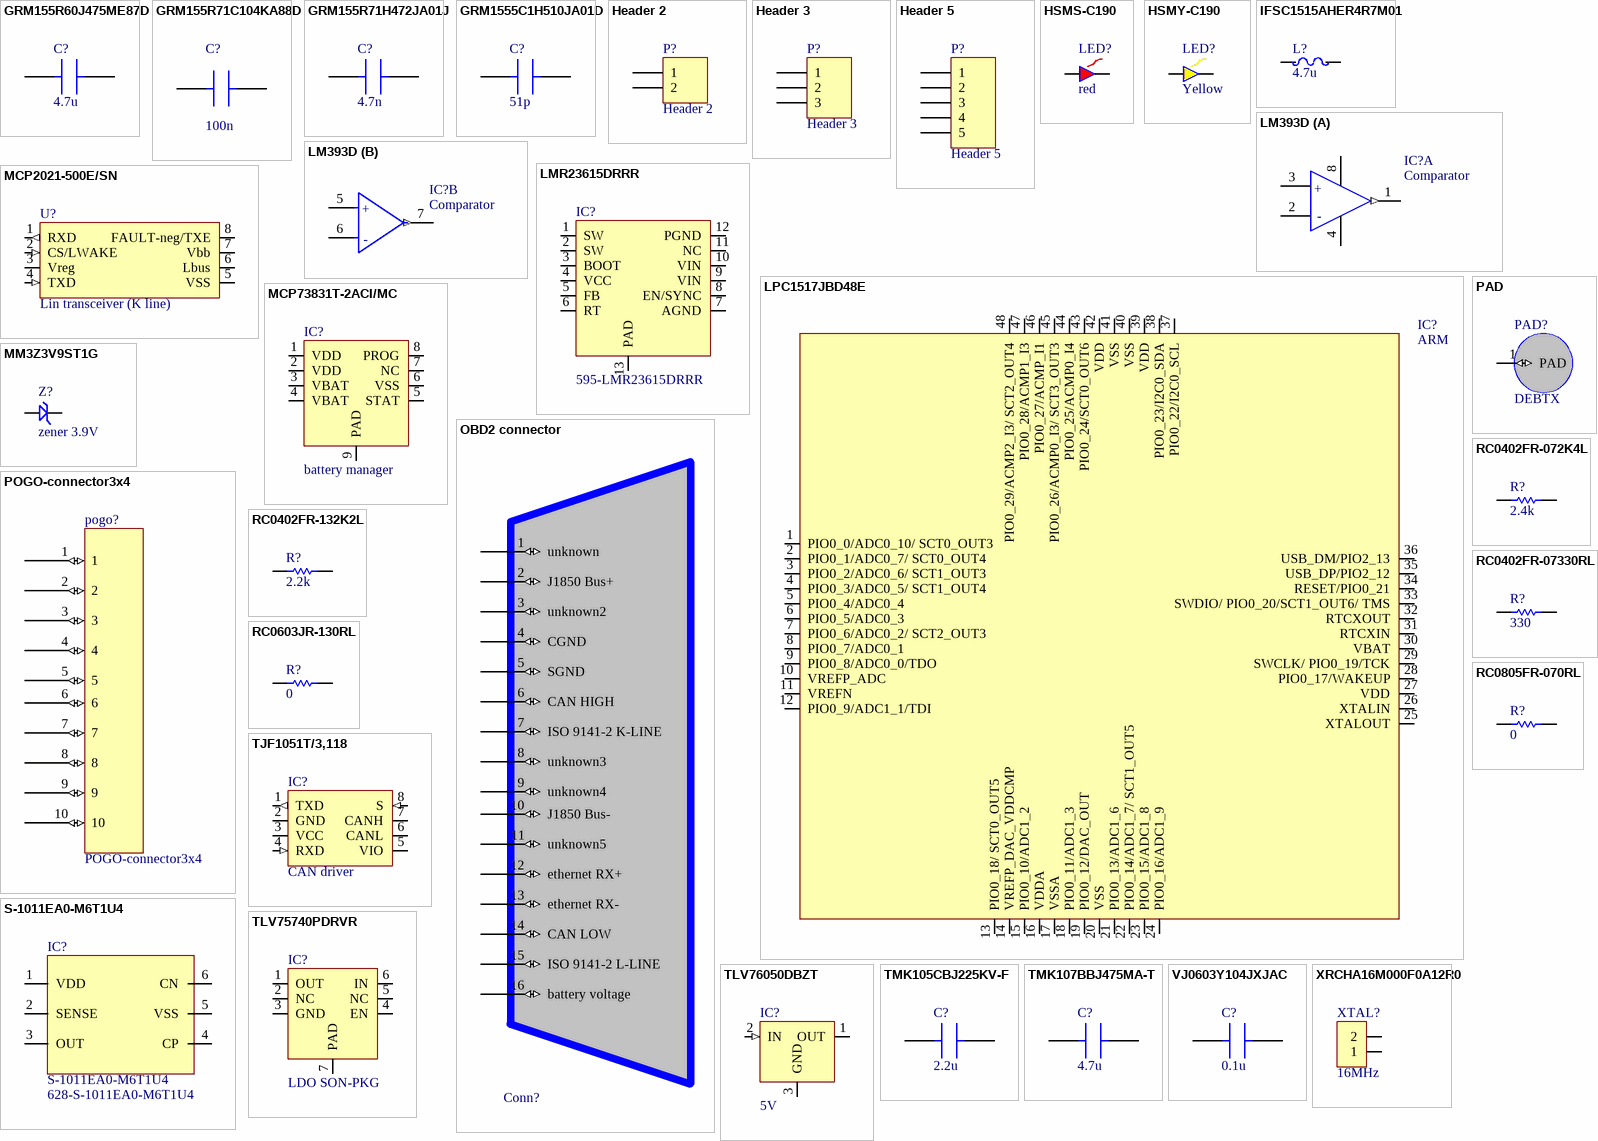
[diagram p1: symbols GRM155R60J475ME87D to XRCHA16M000F0A12R0]

## GRM155R60J475ME87D
designator C?, comment 4.7u
MURATA - GRM155R60J475ME87D - SMD Multilayer Ceramic Capacitor, 4.7 µF, 6.3 V, 0402 [1005 Metric], ± 20%, X5R, GRM Series; Capacitance: 4.7uF; Voltage Rating: 6.3V; Supplier 1: Mouser; Manufacturer: Murata; Manufacturer Part Number: GRM155R60J475ME87D; RoHS: Yes; Category: Ceramic Capacitors; Stock 1: 1169227; Pricing 1: 1=0,14000, 10=0,05800, 50=0,05800, 100=0,04800, 1000=0,02800, 10000=0,02000 (USD); Mount: Surface Mount; Case/Package: 0402; Case Code (Metric): 1005; Case Code (Imperial): 0402; Min Operating Temperature: -55°C; Max Operating Temperature: 85°C; Tolerance: 20%; Dielectric: X5R; Package Quantity: 1; Packaging: Tape and Reel; Voltage: 6.3V; Voltage Rating (DC): 6.3V; Series: GRM; Construction: Flat; Length: 1mm; Width: 0.02inch; Height: 0.5mm; Thickness: 0.022inch; Depth: 0.5mm; Radiation Hardening: No; REACH SVHC: No SVHC; Lead Free: Lead Free; RoHS Compliant: Yes; ComponentLink1URL: https://datasheet.ciiva.com/3779/21116grm155r60j475me8723-3779229.pdf?src-supplier=Arrow+Electronics; ComponentLink1Description: https://datasheet.ciiva.com/3779/21116grm155r60j475me8723-3779229.pdf?src-supplier=Arrow+Electronics; ComponentLink2URL: https://datasheet.ciiva.com/136/partnumbering-e-01-136783.pdf?src-supplier=Digi-Key; ComponentLink2Description: https://datasheet.ciiva.com/136/partnumbering-e-01-136783.pdf?src-supplier=Digi-Key; ComponentLink3URL: https://datasheet.ciiva.com/136/partnumbering-e-01-136784.pdf?src-supplier=Digi-Key; ComponentLink3Description: https://datasheet.ciiva.com/136/partnumbering-e-01-136784.pdf?src-supplier=Digi-Key; Supplier Part Number 1: 81-GRM155R60J475ME8D
footprint CAPC1005X06N (Chip Capacitor, 0420, 2-Leads, Body 1,02x0,50mm, IPC Medium Density)
pins: 1, 2